# EAGLE library part MAX4378 (library everykey)
Maxim quad current sense amplifier
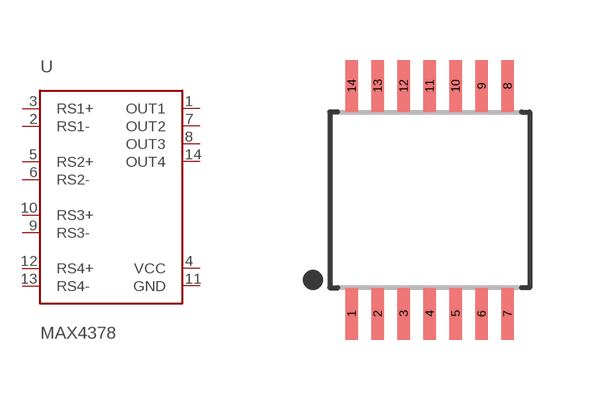
[diagram p75: symbol with the pads of TSSOP14-0.65; footprint TSSOP14-0.65]

Designator prefix -

## MAX4378TSSOP  [TSSOP14-0.65]
1  OUT1  out
2  RS1-  in
3  RS1+  in
4  VCC  pwr
5  RS2+  in
6  RS2-  in
7  OUT2  out
8  OUT3
9  RS3-
10  RS3+
11  GND  pwr
12  RS4+
13  RS4-
14  OUT4

## Footprint TSSOP14-0.65 (pad centres in mm)
TSSOP package, 14 pins, 0.65mm pitch, 4.4mm body width
smd 0.31 x 1.3: 1 -1.95,-2.85; 2 -1.3,-2.85; 3 -0.65,-2.85; 4 0,-2.85; 5 0.65,-2.85; 6 1.3,-2.85; 7 1.95,-2.85; 8 1.95,2.85; 9 1.3,2.85; 10 0.65,2.85; 11 0,2.85; 12 -0.65,2.85; 13 -1.3,2.85; 14 -1.95,2.85